# EAGLE library part MOMO-SENSOR-RJ11 (library components)
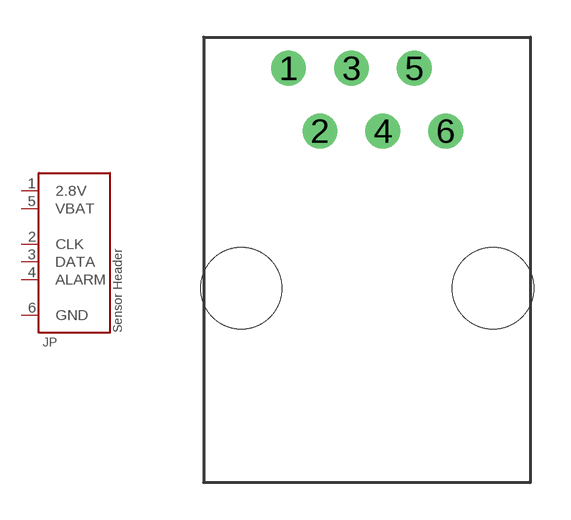
[diagram p29: symbol with the pads of RJ-12; footprint RJ-12]

Designator prefix JP

## MOMO-SENSOR-RJ11 (DIGIKEY-PN: AE10383-ND)  [RJ-12]
1  2.8V
2  CLK
3  DATA
4  ALARM
5  VBAT
6  GND

## Footprint RJ-12 (pad centres in mm)
drill 0.9: 1 -3.17,8.89; 2 -1.9,6.35; 3 -0.63,8.89; 4 0.64,6.35; 5 1.91,8.89; 6 3.18,6.35
hole 3.28 at -5.08,0
hole 3.28 at 5.08,0